# EAGLE library part PAM8403 (library Custom)
RTD to Digital Converter The MAX31865 is a resistance-to-digital converter optimized for platinum resistance temperature detectors (RTDs). An external resistor sets the sensitivity for the RTD being used and a delta-sigma ADC converts the ratio of the RTD resistance to the reference resistance into digital form. The MAX31865’s inputs are protected against overvoltage faults up to +/-50V. Programmable detection of RTD and cable open and short conditions is included.
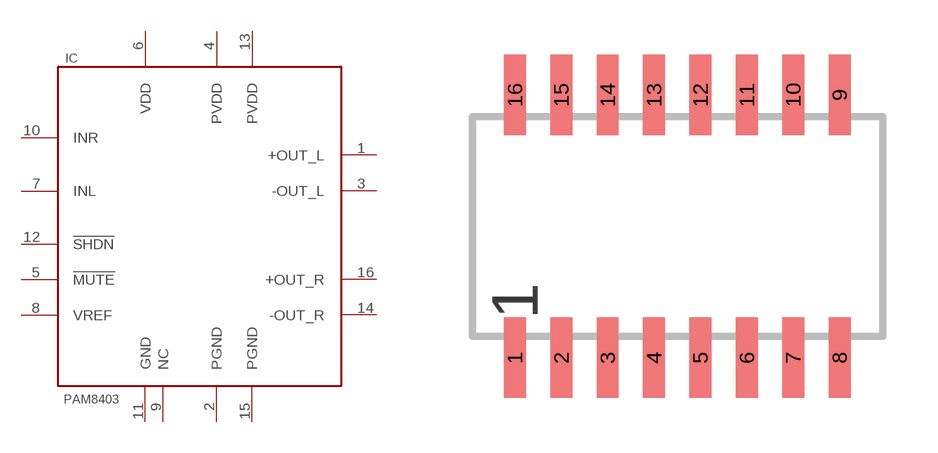
[diagram p7: symbol with the pads of SOP16; footprint SOP16]

Designator prefix IC

## PAM8403  [SOP16]
1  +OUT_L  in
2  PGND  pwr
3  -OUT_L  in
4  PVDD  pwr
5  !MUTE  in
6  VDD  pwr
7  INL  out
8  VREF  in
9  NC
10  INR  in
11  GND  pwr
12  !SHDN  in
13  PVDD  pwr
14  -OUT_R  in
15  PGND  pwr
16  +OUT_R  in

## Footprint SOP16 (pad centres in mm)
SMALL OUTLINE PACKAGE
smd 0.6 x 2.2: 1 -4.445,-3.6; 2 -3.175,-3.6; 3 -1.905,-3.6; 4 -0.635,-3.6; 5 0.635,-3.6; 6 1.905,-3.6; 7 3.175,-3.6; 8 4.445,-3.6; 9 4.445,3.6; 10 3.175,3.6; 11 1.905,3.6; 12 0.635,3.6; 13 -0.635,3.6; 14 -1.905,3.6; 15 -3.175,3.6; 16 -4.445,3.6